# EAGLE library part SLIDE (library hw4)
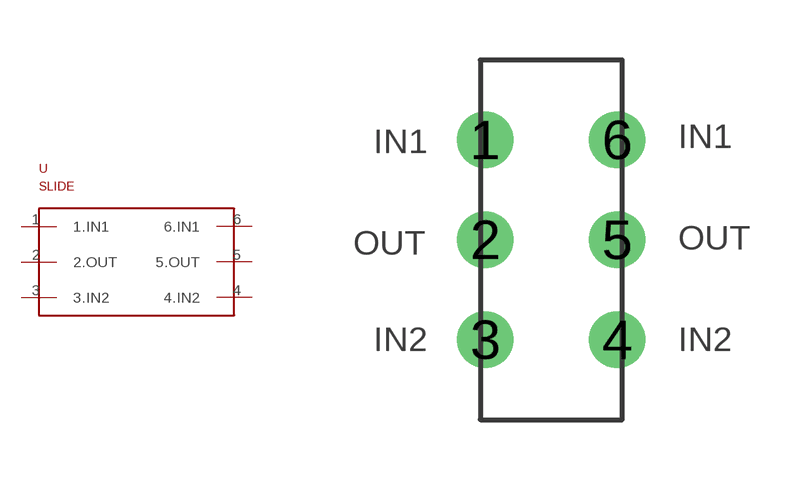
[diagram p7: symbol with the pads of SLIDE; footprint SLIDE]

Designator prefix -

## SLIDE  [SLIDE]
1  1.IN1
2  2.OUT
3  3.IN2
4  4.IN2
5  5.OUT
6  6.IN1

## Footprint SLIDE (pad centres in mm)
drill 0.9: 1 -1.65,2.5; 2 -1.65,0; 3 -1.65,-2.5; 4 1.65,-2.5; 5 1.65,0; 6 1.65,2.5